# Altium footprint library HV9150.PcbLib: 25 footprints (part 1 of 2)
Each footprint in its own frame and in the unit in brackets; x right, y up, seen from the top. Pads: shape width x height; smd on the part's side, far side on the other; paste and mask are expansions set on the pad; w line width, h text height; cw(c..) or ccw(c..) is an arc to the next point about the centre after c.
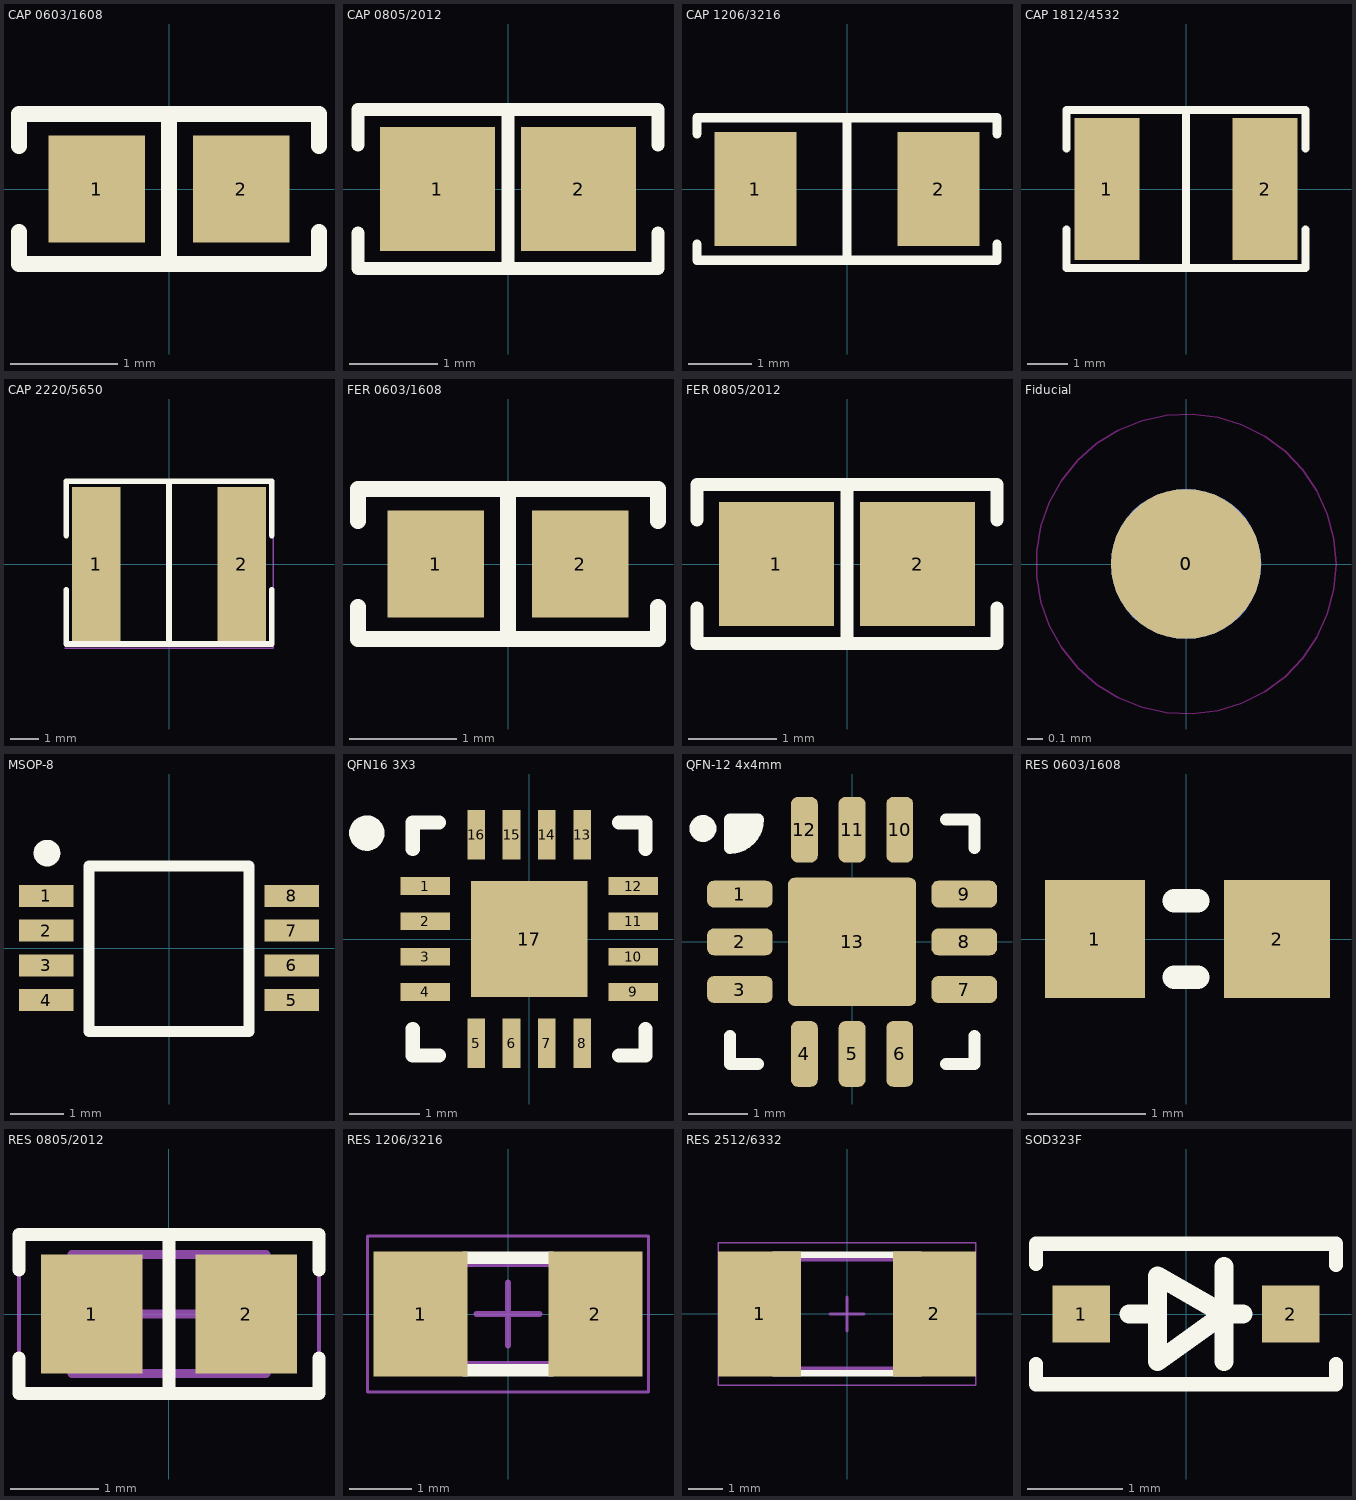
[diagram p0: the footprints below, top view; thin cyan lines are the x and y axes]

## CAP 0603/1608 [mm] "Chip Capacitor, 2-Leads, Body 1.60x0.80mm, IPC Medium Density"
height 0.89
pads (2):
  rect 0.9x1 smd: 1(-0.675,0) 2(0.675,0)
Top Overlay:
  lines w0.15: -1.4,-0.4 -1.4,-0.7 1.4,-0.7 1.4,-0.4 ; -1.4,0.4 -1.4,0.7 1.4,0.7 1.4,0.4 ; 0,-0.7 0,0.7
3D body "0603 cap.STEP": height 0.82, standoff 0, extent -0.8,-0.412 0.8,0.412

## CAP 0805/2012 [mm] "Chip Capacitor, 2-Leads, Body 2.00x1.20mm, IPC Medium Density"
height 1.15
pads (2):
  rect 1.3x1.4 smd: 1(-0.8,0) 2(0.8,0)
Top Overlay:
  lines w0.15: -1.7,-0.5 -1.7,-0.9 1.7,-0.9 1.7,-0.5 ; -1.7,0.5 -1.7,0.9 1.7,0.9 1.7,0.5 ; 0,-0.9 0,0.9
3D body "0805 cap.STEP": height 1.26, standoff -0.02, extent -1,-0.637 1,0.637

## CAP 1206/3216 [mm] "Chip Capacitor, 2-Leads, Body 3.25x1.60mm, IPC Medium Density"
height 1.2
pads (2):
  rect 1.3x1.8 smd: 1(-1.45,0) 2(1.45,0)
Top Overlay:
  lines w0.15: -2.375,-0.875 -2.375,-1.125 2.375,-1.125 2.375,-0.875 ; -2.375,0.875 -2.375,1.125 2.375,1.125 2.375,0.875 ; 0,-1.125 0,1.125
3D body "CAP 1206-1.2mm.STEP": height 1.2, standoff 0, extent -1.6,-0.8 1.6,0.8

## CAP 1812/4532 [mm] "Chip Capacitor, 2-Leads, Body 4.50x3.20mm, IPC Medium Density"
height 2
pads (2):
  rect 1.6x3.5 smd: 1(-1.95,0) 2(1.95,0)
Top Overlay:
  lines w0.2: -2.95,-1 -2.95,-1.95 2.95,-1.95 2.95,-1 ; -2.95,1 -2.95,1.95 2.95,1.95 2.95,1 ; 0,-1.95 0,1.95
3D body "CAP 1812-2.00mm.STEP": height 2, standoff 0, extent -2.25,-1.6 2.25,1.6

## CAP 2220/5650 [mm] "Chip Capacitor, 2-Leads, Body 5.70x5.00mm, IPC Medium Density"
height 2
pads (2):
  rect 1.7x5.4 smd: 1(-2.55,0) 2(2.55,0)
Top Overlay:
  lines w0.2: -3.6,-0.9 -3.6,-2.8 3.6,-2.8 3.6,-0.9 ; -3.6,1 -3.6,2.9 3.6,2.9 3.6,1 ; 0,-2.8 0,2.9
Mechanical 15:
  lines w0.05: -3.65,-2.95 3.65,-2.95 3.65,2.95 -3.65,2.95
3D body "CAP 2020-2.0mm.STEP": height 2, standoff 0, extent -2.85,-2.5 2.85,2.5

## FER 0603/1608 [mm] "Chip Ferrite, 2-Leads, Body 1.60x0.80mm, IPC Medium Density"
height 0.89
pads (2):
  rect 0.9x1 smd: 1(-0.675,0) 2(0.675,0)
Top Overlay:
  lines w0.15: -1.4,-0.4 -1.4,-0.7 1.4,-0.7 1.4,-0.4 ; -1.4,0.4 -1.4,0.7 1.4,0.7 1.4,0.4 ; 0,-0.7 0,0.7
3D body "FER 0603.STEP": height 0.82, standoff 0, extent -0.8,-0.412 0.8,0.412

## FER 0805/2012 [mm] "Chip Ferrite, 2-Leads, Body 2.00x1.20mm, IPC Medium Density"
height 1.15
pads (2):
  rect 1.3x1.4 smd: 1(-0.8,0) 2(0.8,0)
Top Overlay:
  lines w0.15: -1.7,-0.5 -1.7,-0.9 1.7,-0.9 1.7,-0.5 ; -1.7,0.5 -1.7,0.9 1.7,0.9 1.7,0.5 ; 0,-0.9 0,0.9
3D body "FER 0805.STEP": height 1.26, standoff -0.02, extent -1,-0.637 1,0.637

## Fiducial [mm]
pads (2):
  round 1 smd paste-10 mask+0.5: 0(0,0)
  round 1 smd far side paste-10 mask+0.5: 0(0,0)
Keep-Out Layer:
  circle w0.01: c0,0 r1

## MSOP-8 [mm]
pads (8):
  rect 1.02x0.41 smd: 1(-2.3,0.975) 2(-2.3,0.325) 3(-2.3,-0.325) 4(-2.3,-0.975) 5(2.3,-0.975) 6(2.3,-0.325) 7(2.3,0.325) 8(2.3,0.975)
Top Overlay:
  circle w0.25: c-2.286,1.778 r0.125
  lines w0.2: -1.5,-1.565 -1.5,1.535 1.5,1.535 1.5,-1.565 -1.5,-1.565
3D body "MSOP-8.step": height 1.15, standoff 0, extent -2.464,-1.49 2.436,1.51

## QFN16 3X3 [mm]
height 0.9
pads (17):
  rect 0.7x0.25 smd: 1(-1.475,0.75) 2(-1.475,0.25) 3(-1.475,-0.25) 4(-1.475,-0.75) 9(1.475,-0.75) 10(1.475,-0.25) 11(1.475,0.25) 12(1.475,0.75)
  rect 0.25x0.7 smd: 5(-0.75,-1.475) 6(-0.25,-1.475) 7(0.25,-1.475) 8(0.75,-1.475) 13(0.75,1.475) 14(0.25,1.475) 15(-0.25,1.475) 16(-0.75,1.475)
  rect 1.65x1.65 smd: 17(0,0)
Top Overlay:
  circle w0.25: c-2.3,1.5 r0.125
  lines w0.2: -1.65,-1.275 -1.65,-1.65 -1.275,-1.65 ; -1.65,1.275 -1.65,1.65 -1.275,1.65 ; 1.275,-1.65 1.65,-1.65 1.65,-1.275 ; 1.275,1.65 1.65,1.65 1.65,1.275
3D body "QFN-16.STEP": height 0.9, standoff 0, extent -1.501,-1.501 1.501,1.501

## QFN-12 4x4mm [mm] "0.8 mm pitch"
height 1
pads (13):
  rrect50% 1.1x0.45 smd: 1(-1.88,0.8) 2(-1.88,0) 3(-1.88,-0.8) 7(1.88,-0.8) 8(1.88,0) 9(1.88,0.8)
  rrect50% 0.45x1.1 smd: 4(-0.8,-1.88) 5(0,-1.88) 6(0.8,-1.88) 10(0.8,1.88) 11(0,1.88) 12(-0.8,1.88)
  rrect10% 2.15x2.15 smd: 13(0,0)
Top Overlay:
  circle w0.25: c-2.5,1.9 r0.1
  region: -2.05,2.05 -1.575,2.05 -1.575,1.854 -1.854,1.575 -2.05,1.575
  lines w0.2: -2.05,-1.575 -2.05,-2.05 -1.575,-2.05 ; 1.575,-2.05 2.05,-2.05 2.05,-1.575 ; 1.575,2.05 2.05,2.05 2.05,1.575 ; -2.05,1.575 ccw(c-2.05,2.05) -1.575,2.05 -2.05,2.05 -2.05,1.575
Mechanical 15:
  lines w0.1: -0.5,0 0.5,0 ; 0,-0.5 0,0.5
3D body "User Library-qfn16-4x4.step": height 0.92, standoff 0, extent -2,-2 2,2

## RES 0603/1608 [mm]
height 0.45
pads (2):
  rect 0.85x1 smd: 1(-0.775,0)
  rect 0.9x1 smd: 2(0.775,0)
Top Overlay:
  lines w0.2: -0.1,-0.325 0.1,-0.325 ; -0.1,0.325 0.1,0.325
3D body "RESC-0603.stp": height 0.55, standoff 0, extent -0.85,-0.45 0.85,0.45

## RES 0805/2012 [mm] "Chip Resistor, 2-Leads, Body 2.00x1.25mm, IPC Medium Density"
height 0.7
pads (2):
  rect 1.15x1.35 smd: 1(-0.875,0) 2(0.875,0)
Top Overlay:
  lines w0.15: -1.7,-0.5 -1.7,-0.9 1.7,-0.9 1.7,-0.5 ; -1.7,0.5 -1.7,0.9 1.7,0.9 1.7,0.5 ; 0,-0.9 0,0.9
Mechanical 13:
  lines w0.1: -1.1,-0.675 -1.1,0.675 1.1,0.675 1.1,-0.675 -1.1,-0.675
Mechanical 15:
  lines w0.05: -1.7,-0.95 -1.7,0.95 1.7,0.95 1.7,-0.95 -1.7,-0.95
  lines w0.1: -0.5,0 0.5,0 ; 0,-0.5 0,0.5
3D body "RESC-0805.stp": height 0.6, standoff 0, extent -1.05,-0.675 1.05,0.675

## RES 1206/3216 [mm]
height 0.6
pads (2):
  rect 1.5x2 smd: 1(-1.4,0) 2(1.4,0)
Top Overlay:
  lines w0.2: -0.7,-0.9 0.7,-0.9 ; -0.7,0.9 0.7,0.9
Mechanical 13:
  lines w0.1: -1.6,-0.8 1.6,-0.8 1.6,0.8 -1.6,0.8 -1.6,-0.8
Mechanical 15:
  lines w0.05: -2.25,-1.25 2.25,-1.25 2.25,1.25 -2.25,1.25 -2.25,-1.25
  lines w0.1: -0.5,0 0.5,0 ; 0,-0.5 0,0.5
3D body "RESC-1206.stp": height 0.65, standoff 0, extent -1.65,-0.85 1.65,0.85

## RES 2512/6332 [mm] "Chip Resistor, 2-Leads, Body 6,30x3,20mm, IPC Medium Density"
height 0.6
pads (2):
  rect 2.45x3.7 smd: 1(-2.575,0) 2(2.575,0)
Top Overlay:
  lines w0.2: -2.15,-1.75 2.15,-1.75 ; -2.15,1.75 2.15,1.75
Mechanical 13:
  lines w0.1: -3.15,-1.6 3.15,-1.6 3.15,1.6 -3.15,1.6 -3.15,-1.6
Mechanical 15:
  lines w0.05: -3.8,-2.1 3.8,-2.1 3.8,2.1 -3.8,2.1 -3.8,-2.1
  lines w0.1: -0.5,0 0.5,0 ; 0,-0.5 0,0.5
3D body "RESC-2512.stp": height 0.65, standoff 0, extent -3.2,-1.65 3.2,1.65

## SOD323F [mm] "SODFL, 2-Leads, Body 1.25x2.50mm, IPC Medium Density"
height 0.8
pads (2):
  rect 0.6x0.6 smd: 1(-1.1,0) 2(1.1,0)
Top Overlay:
  lines w0.15: -1.575,-0.525 -1.575,-0.737 1.575,-0.737 1.575,-0.525 ; -1.575,0.525 -1.575,0.737 1.575,0.737 1.575,0.514
  lines w0.2: -0.6,0 -0.3,0 ; 0.4,-0.5 0.4,0.5 ; 0.6,0 0.4,0 ; 0.4,0 -0.3,0.4 -0.3,-0.5 0.4,0
3D body "SOD323F.STEP": height 0.8, standoff 0, extent -1.25,-0.625 1.25,0.625